# Altium footprint library PcbLib1.PcbLib: 4 footprints
Each footprint in its own frame and in the unit in brackets; x right, y up, seen from the top. Pads: shape width x height; smd on the part's side, far side on the other; paste and mask are expansions set on the pad; w line width, h text height; cw(c..) or ccw(c..) is an arc to the next point about the centre after c.
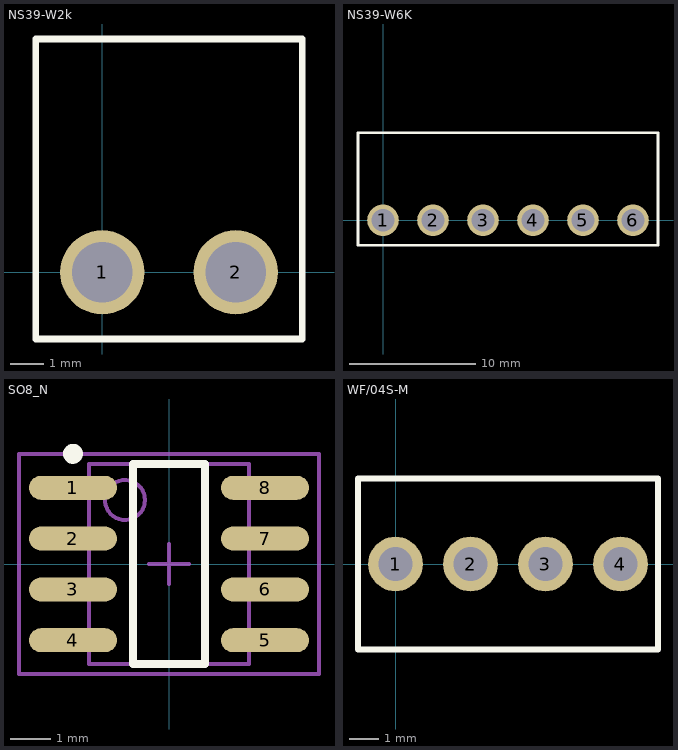
[diagram p0: the footprints below, top view; thin cyan lines are the x and y axes]

## NS39-W2k [mm]
pads (2):
  round 2.5 hole 1.8: 1(0,0) 2(3.96,0)
Top Overlay:
  lines w0.2: -1.98,-1.98 -1.98,6.93 5.94,6.93 5.94,-1.98 -1.98,-1.98
3D body "User Library-Cvilux_CI5102P1H00.STEP": height 9.6, standoff -3.6, extent -1.98,-0.495 5.94,18.875

## NS39-W6K [mm]
pads (6):
  round 2.5 hole 1.8: 1(0,0) 2(3.96,0) 3(7.92,0) 4(11.88,0) 5(15.84,0) 6(19.8,0)
Top Overlay:
  lines w0.2: -1.98,-1.98 -1.98,6.93 21.78,6.93 21.78,-1.98 -1.98,-1.98
3D body "User Library-Cvilux_CI5106P1H00.STEP": height 9.6, standoff -3.6, extent -1.98,-0.495 21.78,18.875

## SO8_N [mm] "SOIC, 8-Leads, Body 4.9x3.9mm, Pitch 1.27mm, IPC Medium Density"
height 1.75
pads (8):
  oval 2.2x0.6 smd: 1(-2.4,1.905) 2(-2.4,0.635) 3(-2.4,-0.635) 4(-2.4,-1.905) 5(2.4,-1.905) 6(2.4,-0.635) 7(2.4,0.635) 8(2.4,1.905)
Top Overlay:
  circle w0.25: c-2.4,2.755 r0.125
  lines w0.2: -0.9,-2.5 -0.9,2.5 0.9,2.5 0.9,-2.5 -0.9,-2.5
Mechanical 13:
  circle w0.1: c-1.1,1.6 r0.5
  lines w0.1: -2,-2.5 -2,2.5 2,2.5 2,-2.5 -2,-2.5
Mechanical 15:
  lines w0.1: -0.5,0 0.5,0 ; 0,-0.5 0,0.5 ; -3.75,-2.75 -3.75,2.75 3.75,2.75 3.75,-2.75 -3.75,-2.75
3D body: height 1.75, standoff 0, extent -2,-2.5 2,2.5

## WF/04S-M [mm]
pads (4):
  round 1.85 hole 1.15: 1(0,0) 2(2.54,0) 3(5.08,0) 4(7.62,0)
Top Overlay:
  lines w0.2: -1.27,-2.9 -1.27,2.9 8.89,2.9 8.89,-2.9 -1.27,-2.9
3D body "4382.stp": height 12.12, standoff -3.14, extent -1.27,-2.92 8.89,2.88